# EAGLE library part SWITCH_CHERRY_MX_RGB (library controls)
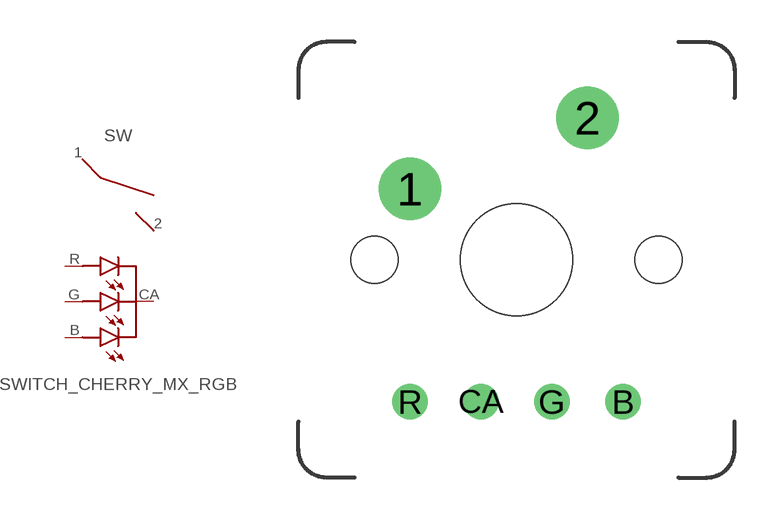
[diagram p0: symbol with the pads of SWITCH_CHERRY_MX_RGB; footprint SWITCH_CHERRY_MX_RGB]

Designator prefix SW

## SWITCH_CHERRY_MX_RGBSWITCH_CHERRY_MX_RGB  [SWITCH_CHERRY_MX_RGB]
1  1  pas
2  2  pas
B  B-CAT  pas
CA  COMMON-ANODE  pas
G  G-CAT  pas
R  R-CAT  pas

## Footprint SWITCH_CHERRY_MX_RGB (pad centres in mm)
drill 1.5: 1 -3.81,2.54; 2 2.54,5.08
drill 0.75: B 3.81,-5.08; CA -1.27,-5.08; G 1.27,-5.08; R -3.81,-5.08
hole 4 at 0,0
hole 1.7 at -5.08,0
hole 1.7 at 5.08,0